# Altium footprint library SnapEDApcb.PcbLib: 1 footprints
Each footprint in its own frame and in the unit in brackets; x right, y up, seen from the top. Pads: shape width x height; smd on the part's side, far side on the other; paste and mask are expansions set on the pad; w line width, h text height; cw(c..) or ccw(c..) is an arc to the next point about the centre after c.
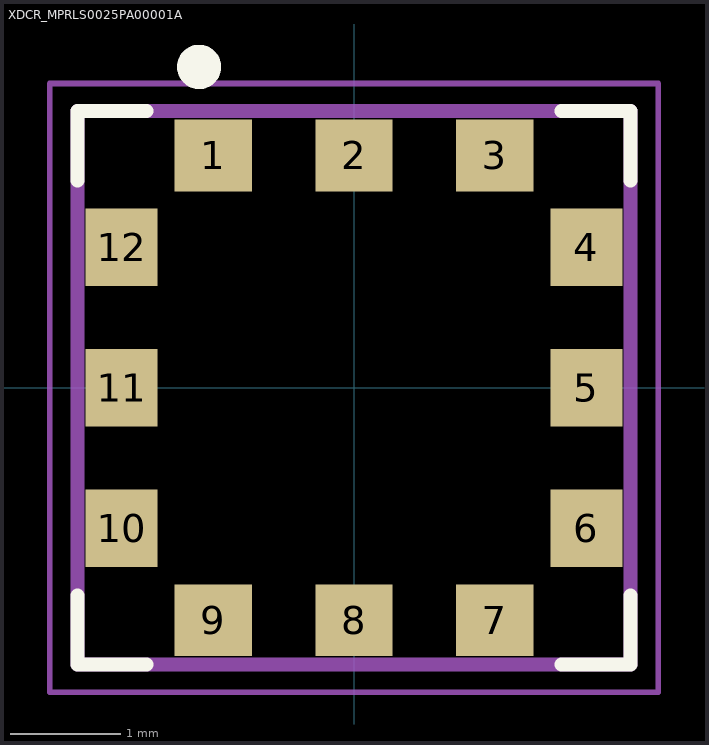
[diagram p0: the footprint, top view; thin cyan lines are the x and y axes]

## XDCR_MPRLS0025PA00001A [mm]
pads (12):
  rect 0.7x0.65 smd: 1(-1.27,2.1) 2(0,2.1) 3(1.27,2.1) 7(1.27,-2.1) 8(0,-2.1) 9(-1.27,-2.1)
  rect 0.65x0.7 smd: 4(2.1,1.27) 5(2.1,0) 6(2.1,-1.27) 10(-2.1,-1.27) 11(-2.1,0) 12(-2.1,1.27)
Top Overlay:
  circle w0.2: c-1.4,2.9 r0.1
  lines w0.127: -2.5,-1.875 -2.5,-2.5 -1.875,-2.5 ; -2.5,1.875 -2.5,2.5 -1.875,2.5 ; 1.875,-2.5 2.5,-2.5 2.5,-1.875 ; 1.875,2.5 2.5,2.5 2.5,1.875
Mechanical 13:
  circle w0.2: c-1.2,2.1 r0.1
  lines w0.127: -2.5,-2.5 -2.5,2.5 2.5,2.5 2.5,-2.5 -2.5,-2.5
Mechanical 15:
  lines w0.05: -2.75,-2.75 -2.75,2.75 2.75,2.75 2.75,-2.75 -2.75,-2.75